# Altium footprint library Fiducial Mark.PcbLib: 3 footprints
Each footprint in its own frame and in the unit in brackets; x right, y up, seen from the top. Pads: shape width x height; smd on the part's side, far side on the other; paste and mask are expansions set on the pad; w line width, h text height; cw(c..) or ccw(c..) is an arc to the next point about the centre after c.
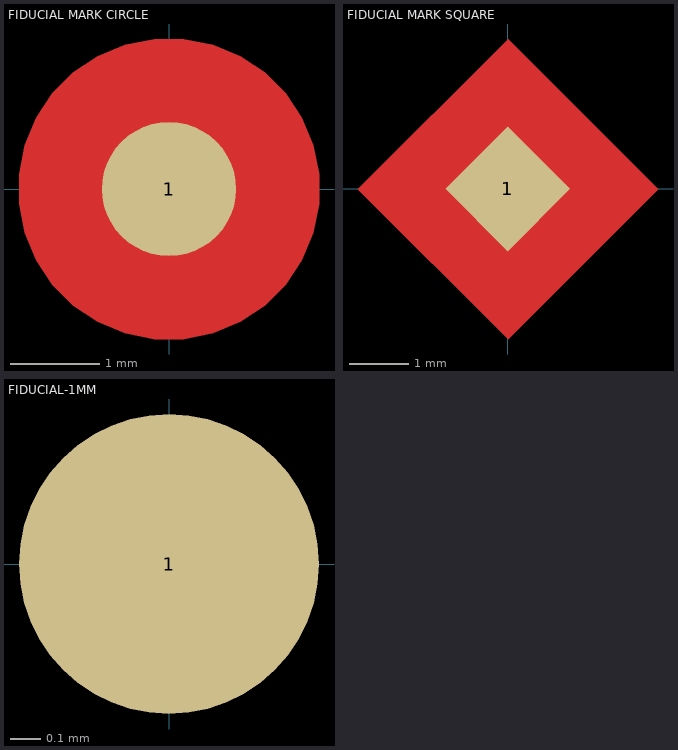
[diagram p0: the footprints below, top view; thin cyan lines are the x and y axes]

## FIDUCIAL MARK CIRCLE [mm]
pads (1):
  round 1.5 smd mask+0.75: 1(0,0)
Top Layer:
  pour cut-out: -1.676,0 -1.676,-0.165 -1.612,-0.489 -1.486,-0.794 -1.302,-1.069 -1.069,-1.302 -0.794,-1.486 -0.489,-1.612 -0.165,-1.676 0,-1.676 0.165,-1.676 0.489,-1.612 0.794,-1.486 1.069,-1.302 1.302,-1.069 1.486,-0.794 1.612,-0.489 1.676,-0.165 1.676,0 1.676,0.165 1.612,0.489 1.486,0.794 1.302,1.069 1.069,1.302 0.794,1.486 0.489,1.612 0.165,1.676 0,1.676 -0.165,1.676 -0.489,1.612 -0.794,1.486 -1.069,1.302 -1.302,1.069 -1.486,0.794 -1.612,0.489 -1.676,0.165

## FIDUCIAL MARK SQUARE [mm]
pads (1):
  rect 1.5x1.5 smd rot 45 mask+0.75: 1(0,0)
Top Layer:
  pour cut-out: 0.005,2.54 -2.539,-0.003 0.005,-2.546 2.548,-0.003

## FIDUCIAL-1MM [mm] "1MM FIDUCAL MARKER"
pads (1):
  round 1 smd paste+0 mask+0.5: 1(0,0)